# Altium footprint library GenerALI.PcbLib: 29 footprints (part 2 of 2)
Each footprint in its own frame and in the unit in brackets; x right, y up, seen from the top. Pads: shape width x height; smd on the part's side, far side on the other; paste and mask are expansions set on the pad; w line width, h text height; cw(c..) or ccw(c..) is an arc to the next point about the centre after c.
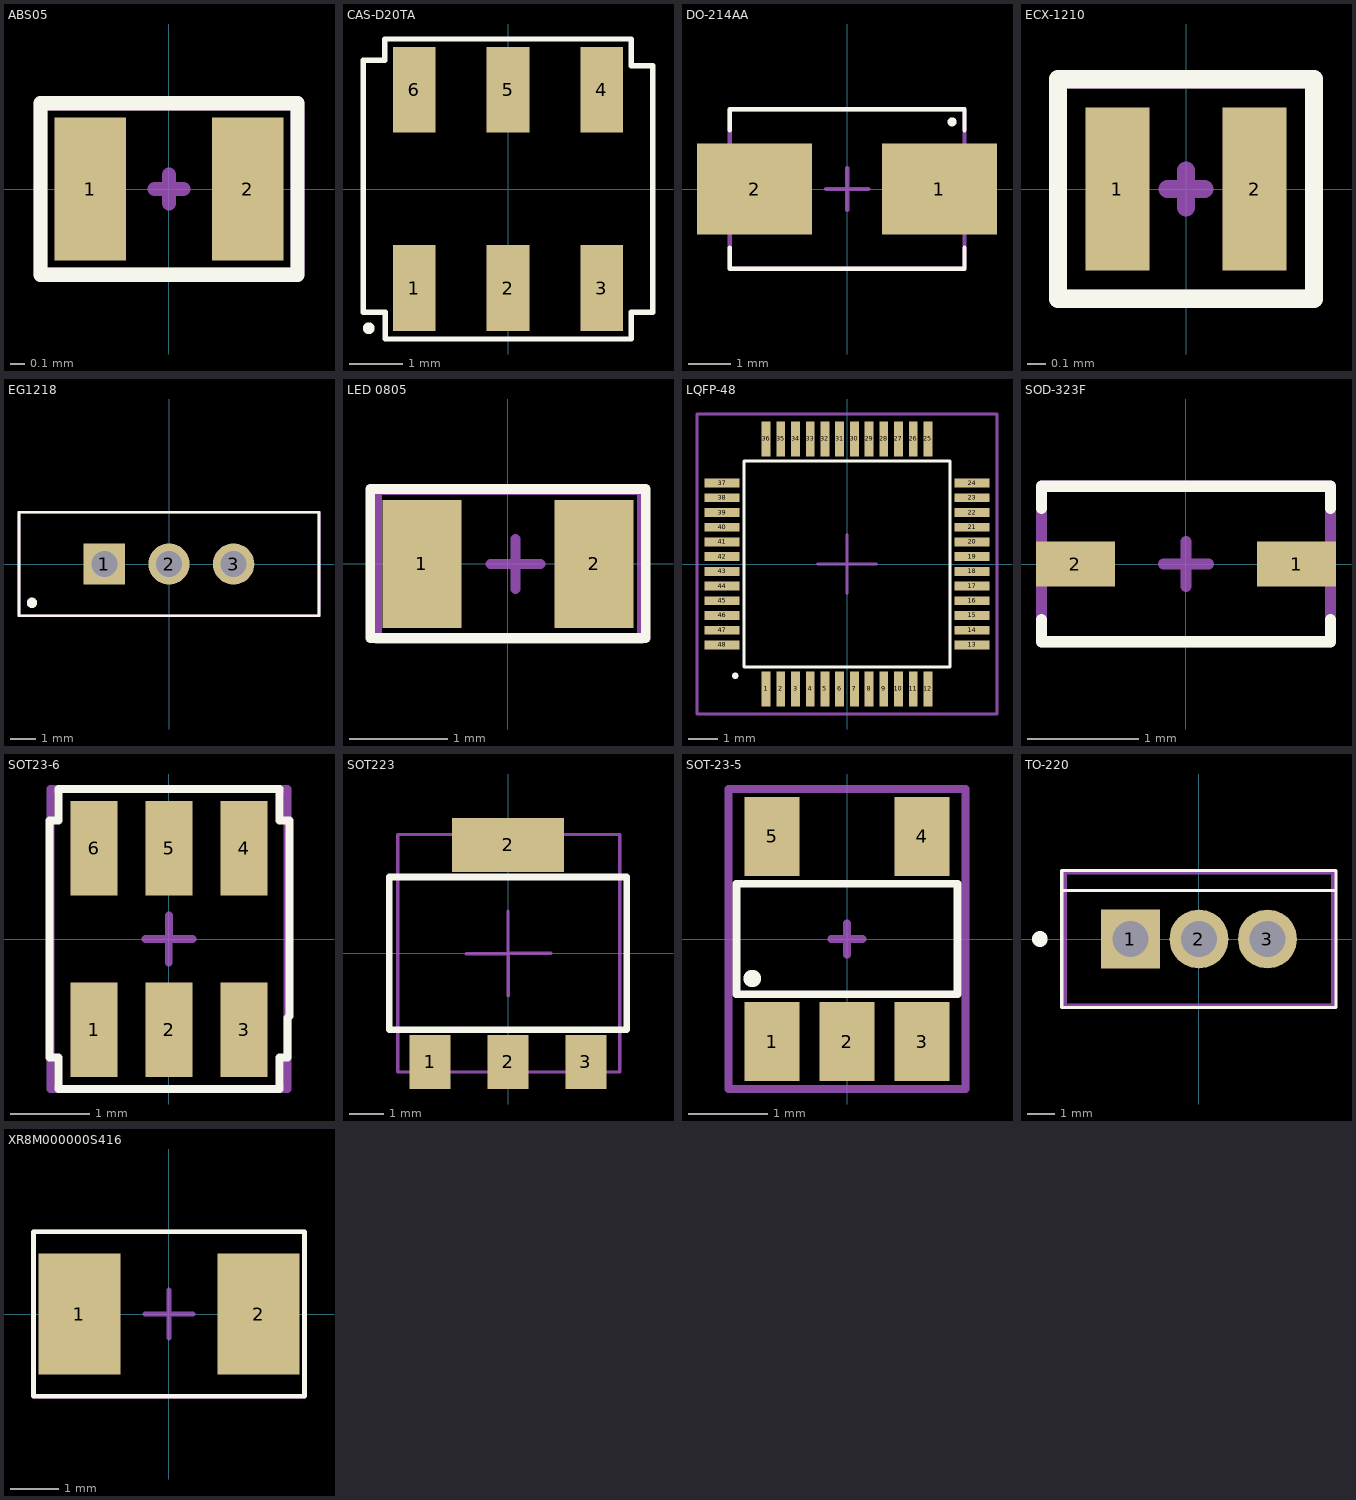
[diagram p1: the footprints below, top view; thin cyan lines are the x and y axes]

## ABS05 [mm] "ABS05"
pads (2):
  rect 0.5x1 smd paste-2539.97 mask+0.05: 1(-0.55,0) 2(0.55,0)
Top Overlay:
  lines w0.1: -0.9,-0.6 0.9,-0.6 0.9,0.6 -0.9,0.6 -0.9,-0.6
Top Component Center:
  lines w0.1: -0.1,0 0,0 ; 0,-0.1 0,0 ; 0,0.1 0,0 ; 0.1,0 0,0 ; -0.9,-0.6 -0.9,0.6 0.9,0.6 0.9,-0.6 -0.9,-0.6
Top Designator:
  text ".Designator" at -0.25,-0.383 h0.8
3D body "ABS05--3DModel-STEP-400430.STEP": height 0.5, standoff 0, extent -0.8,-0.5 0.8,0.5

## CAS-D20TA [mm]
pads (6):
  rect 0.8x1.6 smd paste-2539.97 mask+0.05: 1(-1.75,-1.85) 2(0,-1.85) 3(1.75,-1.85) 4(1.75,1.85) 5(0,1.85) 6(-1.75,1.85)
Top Overlay:
  circle w0.2: c-2.6,-2.6 r0.01
  lines w0.1: -2.7,-2.3 -2.294,-2.3 -2.294,-2.8 2.3,-2.8 2.3,-2.3 2.7,-2.3 2.7,2.3 2.3,2.3 2.3,2.8 -2.3,2.8 -2.3,2.4 -2.7,2.4 -2.7,2.3 -2.7,-2.3
3D body "User Library-CAS-D20TA - Copal Electronics - 2 Position SPDT Micro Slide Switch.step": height 2.5, standoff -0.05, extent -2.7,-2.275 2.7,2.275

## DO-214AA [mm] "DO-214AA"
pads (2):
  rect 2.743x2.159 smd paste-2539.97 mask+0.05: 1(2.2,0) 2(-2.21,0)
Top Overlay:
  circle w0.2: c2.5,1.6 r0.01
  lines w0.1: -2.8,-1.4 -2.8,-1.9 2.8,-1.9 2.8,-1.4 ; -2.8,1.4 -2.8,1.9 2.8,1.9 2.8,1.4
Top Component Center:
  lines w0.1: -0.5,0 0,0 ; 0,-0.5 0,0 ; 0,0.5 0,0 ; 0.5,0 0,0 ; -2.8,-1.9 2.8,-1.9 2.8,1.9 -2.8,1.9 -2.8,-1.9
Top Designator:
  text ".Designator" at -0.65,-0.883 h0.8
3D body "smb.STEP": height 2.39, standoff -0.08, extent -2.72,-1.78 2.72,1.78

## ECX-1210 [mm]
pads (2):
  rect 0.35x0.89 smd paste-2539.97 mask+0.05: 1(-0.375,0) 2(0.375,0)
Top Overlay:
  lines w0.1: -0.7,-0.6 -0.7,0.5 -0.7,0.6 0.7,0.6 0.7,-0.6 -0.7,-0.6
Top Component Center:
  lines w0.1: -0.1,0 0,0 ; 0,-0.1 0,0 ; 0,0.1 0,0 ; 0.1,0 0,0 ; -0.7,-0.6 0.7,-0.6 0.7,0.6 -0.7,0.6 -0.7,0.5 -0.7,-0.6
Top Designator:
  text ".Designator" at -0.45,-0.383 h0.8
3D body "ECS-.327-7-1210-TR.STEP": height 0.35, standoff 0, extent -0.6,-0.5 0.6,0.5

## EG1218 [mm] "EG1218 slide swtitch"
pads (3):
  rect 1.6x1.6 hole 1 paste-2539.97 mask+0.05: 1(-2.5,0)
  round 1.6 hole 1 paste-2539.97 mask+0.05: 2(0,0) 3(2.5,0)
Top Overlay:
  circle w0.2: c-5.3,-1.5 r0.1
  lines w0.1: -5.8,-2 5.8,-2 5.8,2 -5.8,2 -5.8,-2
Top Component Center:
  lines w0.1: -0.5,0 0.5,0 ; 0,0 0,-0.5 0,0.5 ; -5.8,-2 5.8,-2 5.8,2 -5.8,2 -5.8,-2
Top Designator:
  text ".Designator" at -0.55,-0.883 h0.8
3D body "SW.STEP": height 7, standoff -5.1, extent -5.8,-2 5.8,2

## LED 0805 [mm]
pads (2):
  rect 0.8x1.3 smd mask+0.05: 1(-0.875,0) 2(0.875,0)
Top Overlay:
  lines w0.1: -1.4,-0.754 1.4,-0.754 1.4,0.76 -1.4,0.76 -1.4,-0.754
  text "." at -1.25,-0.95 h0.1
Top Component Center:
  lines w0.1: -1.332,0.737 -1.332,-0.762 1.36,-0.762 1.36,0.752 -1.332,0.752 ; -0.179,0 0.075,0 ; 0.075,-0.254 0.075,0.254 0.075,0 ; 0.075,0 0.329,0 0.075,0
Top Designator:
  text ".Designator" at -0.241,-0.267 h0.8
3D body "LED.STEP": height 0.8, standoff 0, extent -1,-0.65 1,0.65

## LQFP-48 [mm]
pads (48):
  rect 0.3x1.2 smd paste-2539.97 mask+0.05: 1(-2.75,-4.25) 2(-2.25,-4.25) 3(-1.75,-4.25) 4(-1.25,-4.25) 5(-0.75,-4.25) 6(-0.25,-4.25) 7(0.25,-4.25) 8(0.75,-4.25) 9(1.25,-4.25) 10(1.75,-4.25) 11(2.25,-4.25) 12(2.75,-4.25) 25(2.75,4.25) 26(2.25,4.25) 27(1.75,4.25) 28(1.25,4.25) 29(0.75,4.25) 30(0.25,4.25) 31(-0.25,4.25) 32(-0.75,4.25) 33(-1.25,4.25) 34(-1.75,4.25) 35(-2.25,4.25) 36(-2.75,4.25)
  rect 1.2x0.3 smd paste-2539.97 mask+0.05: 13(4.25,-2.75) 14(4.25,-2.25) 15(4.25,-1.75) 16(4.25,-1.25) 17(4.25,-0.75) 18(4.25,-0.25) 19(4.25,0.25) 20(4.25,0.75) 21(4.25,1.25) 22(4.25,1.75) 23(4.25,2.25) 24(4.25,2.75) 37(-4.25,2.75) 38(-4.25,2.25) 39(-4.25,1.75) 40(-4.25,1.25) 41(-4.25,0.75) 42(-4.25,0.25) 43(-4.25,-0.25) 44(-4.25,-0.75) 45(-4.25,-1.25) 46(-4.25,-1.75) 47(-4.25,-2.25) 48(-4.25,-2.75)
Top Overlay:
  lines w0.1: -3.5,-3.5 3.5,-3.5 3.5,3.5 -3.5,3.5 -3.5,2.6 -3.5,-3.5
  lines w0.2: -3.792,-3.793 ccw(c-3.8,-3.8) -3.79,-3.8
Top Component Center:
  lines w0.1: -1,0 0,0 ; 0,-1 0,0 ; 0,1 0,0 ; 1,0 0,0 ; -5.1,-5.1 -5.1,5.1 -3.2,5.1 5.1,5.1 5.1,-5.1 -5.1,-5.1
Top Designator:
  text ".Designator" at -0.95,-0.683 h0.8
3D body "LQFP48-7x7-0_50.step": height 1.4, standoff -0.05, extent -4.5,-4.5 4.5,4.5

## SOD-323F [mm]
pads (2):
  rect 0.71x0.403 smd paste-2539.97 mask+0.05: 1(0.995,0) 2(-0.995,0)
Top Overlay:
  lines w0.1: -1.3,-0.5 -1.3,-0.7 1.3,-0.7 1.3,-0.5 ; -1.3,0.5 -1.3,0.7 1.3,0.7 1.3,0.5
  text "." at 1.05,0.35 h0.15
Top Component Center:
  lines w0.1: -0.2,0 0.2,0 ; 0,-0.2 0,0.2 0,0 ; -1.3,-0.7 1.3,-0.7 1.3,0.7 -1.3,0.7 -1.3,-0.7
Top Designator:
  text ".Designator" at -0.85,-0.483 h0.8
3D body "BAV19WS RR.STEP": height 1.1, standoff 0, extent -1.25,-0.625 1.25,0.625

## SOT23-6 [mm] "SOT23-6"
pads (6):
  rect 0.6x1.2 smd paste-2539.97 mask+0.05: 1(-0.95,-1.15) 2(0,-1.15) 3(0.95,-1.15) 4(0.95,1.15) 5(0,1.15) 6(-0.95,1.15)
Top Overlay:
  lines w0.1: -1.512,-1.5 -1.512,1.5 -1.4,1.5 -1.4,1.9 1.4,1.9 1.4,1.5 1.526,1.5 1.526,-0.974 1.5,-1 1.5,-1.5 1.5,-1.503 1.4,-1.503 1.4,-1.9 -1.4,-1.9 -1.4,-1.5 -1.512,-1.5
Top Component Center:
  lines w0.1: -0.3,0 0,0 0,0.3 ; -0.003,-0.3 -0.003,0 0.297,0 ; -1.5,-1.9 -1.5,1.5 -1.5,1.9 1.5,1.9 1.5,-1.9 -1.5,-1.9
Top Designator:
  text ".Designator" at -0.75,-0.483 h0.8
3D body "LMV761MF.STEP": height 1.45, standoff 0, extent -1.45,-1.4 1.45,1.4

## SOT223 [mm]
pads (4):
  rect 1.2x1.6 smd paste-2539.97 mask+0.05: 1(-2.3,-3.2) 2(0,-3.2) 3(2.3,-3.2)
  rect 3.3x1.6 smd paste-2539.97 mask+0.05: 2(0,3.2)
Top Overlay:
  lines w0.2: -3.5,-2.25 -3.5,2.25 3.5,2.25 3.5,-2.25 1.5,-2.25 -3.5,-2.25
Top Component Center:
  lines w0.1: -1.239,-0.01 0.011,-0.01 ; 0,0 0,1.25 ; 0.006,-1.254 0.006,-0.004 ; 0.006,0.001 1.256,0.001 ; -3.249,-3.5 3.3,-3.5 3.3,3.5 3.291,3.509 -3.249,3.509 -3.249,-3.5
Top 3D Body:
  lines w0.1: -3.249,-3.5 -3.249,3.509 3.291,3.509 3.3,3.5 3.3,-3.5 -3.249,-3.5
Top Designator:
  text ".Designator" at -0.65,-0.483 h0.8
3D body "SOT223.STEP": height 1.75, standoff -0.05, extent -3.25,-3.499 3.25,3.499

## SOT-23-5 [mm]
pads (5):
  rect 0.7x1 smd paste-2539.97 mask+0.05: 1(-0.95,-1.3) 2(0,-1.3) 3(0.95,-1.3) 4(0.95,1.3) 5(-0.95,1.3)
Top Overlay:
  circle w0.2: c-1.2,-0.5 r0.01
  lines w0.1: -1.4,-0.7 1.4,-0.7 1.4,0.7 -1.4,0.7 -1.4,-0.7
Top Component Center:
  lines w0.1: -0.2,0 0,0 ; -0.003,0.002 0.197,0.002 ; 0,-0.2 0,0 ; 0,0.2 0,0 ; -1.5,-1.9 1.5,-1.9 1.5,1.9 -1.5,1.9 -1.5,-1.9
Top Designator:
  text ".Designator" at -0.55,-0.383 h0.8
3D body "sot235.STEP": height 1.45, standoff 0, extent -1.48,-1.412 1.48,1.412

## TO-220 [mil]
pads (3):
  rect 86x86 hole 52: 1(-100,0)
  round 86 hole 52: 2(0,0) 3(100,0)
Top Overlay:
  circle w11.81: c-232.28,0 r5.57
  lines w3.94: -200,70.87 200,70.87 200,100 -200,100 -200,70.87
  lines w5: -200,-100 200,-100 200,100 -200,100 -200,-100
Top Component Center:
  lines w3.94: 0,0 3.94,0
  lines w7.87: -39.37,0 39.37,0 0,0 ; 0,0 0,-39.37 0,39.37 0,0 ; -196.85,-98.43 196.85,-98.43 196.85,98.43 -196.85,98.43 -196.85,-98.43
Top Designator:
  text ".Designator" at -131.77,58.51 h39.37
3D body "TIP112--3DModel-STEP-269445.STEP": height 756.5, standoff -381.3, extent -200.79,-58.56 200.79,118.6

## XR8M000000S416 [mm] "step yazısı hariç doğru"
pads (2):
  rect 1.7x2.5 smd paste-2539.97 mask+0.05: 1(-1.85,0) 2(1.85,0)
Top Overlay:
  lines w0.1: -2.8,-1.7 -2.8,-1.3 -2.8,1.7 2.8,1.7 2.8,-1.7 -2.8,-1.7
Top Component Center:
  lines w0.1: -0.5,0 0.5,0 ; 0,0 0,-0.5 0,0.5 ; -2.8,-1.7 2.8,-1.7 2.8,1.7 -2.8,1.7 -2.8,-1.3 -2.8,-1.7
Top Designator:
  text ".Designator" at -1.15,-0.583 h0.8
3D body "ABM3-16.000MHZ-B2-T--3DModel-STEP-400430.STEP": height 1.3, standoff 0, extent -2.5,-1.6 2.5,1.6